# Altium integrated library RC1210FR-0720RL.IntLib: 1 symbol
Pins are listed as number, name and electrical type; pins without a type are passive.

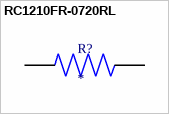
[diagram p0: symbol RC1210FR-0720RL]

## RC1210FR-0720RL
designator R?
MP: RC1210FR-0720RL; Package: None; Price: None; Value: *; Availability: Unavailable
footprint RESC3126X65N
pins: 1, 2